# Altium integrated library eBox-SPARK_1.2.IntLib: 18 symbols
Pins are listed as number, name and electrical type; pins without a type are passive.

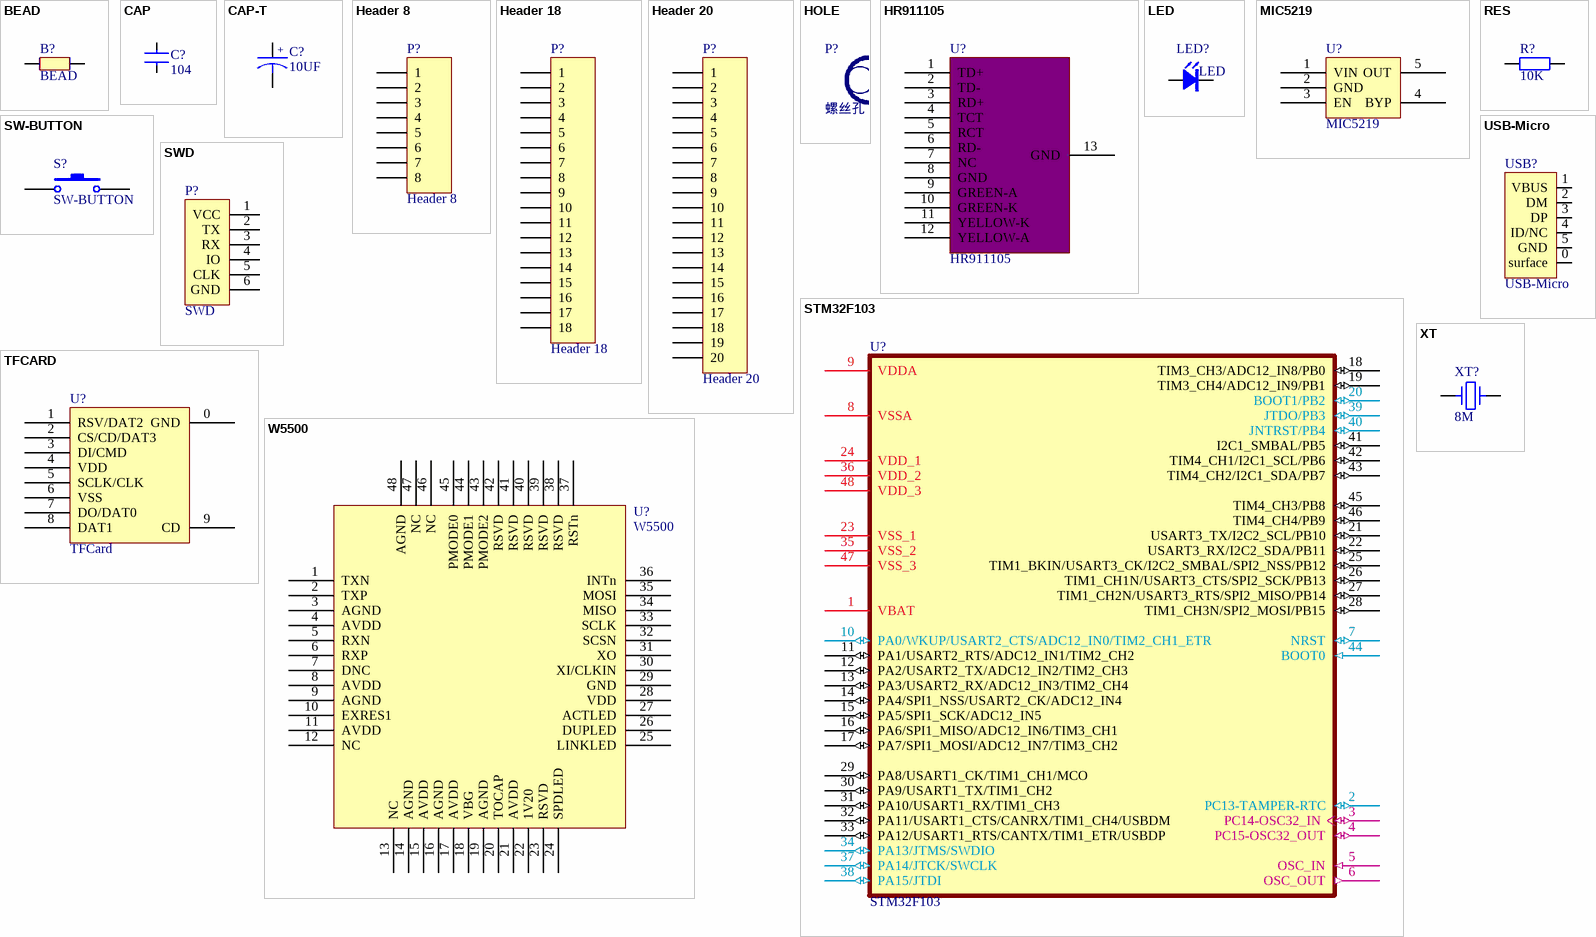
[diagram p0: symbols BEAD to XT]

## BEAD
designator B?
磁珠
footprint 0805L
footprint 0603L
pins: 1, 2

## CAP
designator C?, comment 104
普通小电容
footprint 0603C
footprint 0805C
footprint 1206C
footprint 1812C
footprint RAD0.2
footprint RAD0.3
footprint RAD0.6
footprint RAD0.1
pins: 1, 2

## CAP-T
designator C?, comment 10UF
钽电容
footprint 6032C
footprint 3216C
footprint 3528C (B型)
footprint 7343c
pins: 1, 2
text: +

## Header 8
designator P?
Header, 8-Pin; LatestRevisionDate: 17-Jul-2002; LatestRevisionNote: Re-released for DXP Platform.; Publisher: Altium Limited
footprint HDR1X8 (Connector; Header; 8 Position)
signal-integrity model Connector
footprint HDR1X8-2.0
footprint SH1.0-8P
pins: 1, 2, 3, 4, 5, 6, 7, 8

## Header 18
designator P?
Header, 18-Pin; LatestRevisionDate: 17-Jul-2002; LatestRevisionNote: Re-released for DXP Platform.; Publisher: Altium Limited
footprint HDR1X18 (Connector; Header; 18 Position)
signal-integrity model Connector
pins: 1, 2, 3, 4, 5, 6, 7, 8, 9, 10, 11, 12, 13, 14, 15, 16, 17, 18

## Header 20
designator P?
Header, 20-Pin; LatestRevisionDate: 17-Jul-2002; LatestRevisionNote: Re-released for DXP Platform.; Publisher: Altium Limited
footprint HDR1X20 (Connector; Header; 20 Position)
pins: 1, 2, 3, 4, 5, 6, 7, 8, 9, 10, 11, 12, 13, 14, 15, 16, 17, 18, 19, 20

## HOLE
designator P?, comment 螺丝孔
footprint HOLE-2.5-1

## HR911105
designator U?
footprint HR911105A
pins: 1 TD+ (power), 2 TD- (power), 3 RD+ (power), 4 TCT (power), 5 RCT (power), 6 RD- (power), 7 NC (power), 8 GND (power), 9 GREEN-A (power), 10 GREEN-K (power), 11 YELLOW-K (power), 12 YELLOW-A (power), 13 GND

## LED
designator LED?
footprint 0805D
footprint LED-3
footprint LED-5
footprint 0603D
footprint LED-2X5X7
pins: A 1, K 2

## MIC5219
designator U?
footprint SOT23-5 (Footprint not found)
pins: 1 VIN, 2 GND, 3 EN, 4 BYP, 5 OUT

## RES
designator R?, comment 10K
普通电阻
footprint 0805R
footprint 0603R
footprint 1206R
footprint 1210R
footprint 1812R
footprint 2010R
footprint 2220R
footprint R-AXIAL0.3
footprint R-AXIAL0.4
footprint R-AXIAL0.5
footprint R-SQP3W
footprint R-SQP5W
footprint R-SQP10W
footprint R-SQP20W
footprint RES-10mohm
footprint 4527R
pins: 1, 2

## STM32F103
designator U?
footprint LQFP48
pins: 1 VBAT (power), 2 PC13-TAMPER-RTC (io), 3 PC14-OSC32_IN (io), 4 PC15-OSC32_OUT (io), 5 OSC_IN (in), 6 OSC_OUT (out), 7 NRST (io), 8 VSSA (power), 9 VDDA (power), 10 PA0/WKUP/USART2_CTS/ADC12_IN0/TIM2_CH1_ETR (io), 11 PA1/USART2_RTS/ADC12_IN1/TIM2_CH2 (io), 12 PA2/USART2_TX/ADC12_IN2/TIM2_CH3 (io), 13 PA3/USART2_RX/ADC12_IN3/TIM2_CH4 (io), 14 PA4/SPI1_NSS/USART2_CK/ADC12_IN4 (io), 15 PA5/SPI1_SCK/ADC12_IN5 (io), 16 PA6/SPI1_MISO/ADC12_IN6/TIM3_CH1 (io), 17 PA7/SPI1_MOSI/ADC12_IN7/TIM3_CH2 (io), 18 TIM3_CH3/ADC12_IN8/PB0 (io), 19 TIM3_CH4/ADC12_IN9/PB1 (io), 20 BOOT1/PB2 (io), 21 USART3_TX/I2C2_SCL/PB10 (io), 22 USART3_RX/I2C2_SDA/PB11 (io), 23 VSS_1 (power), 24 VDD_1 (power), 25 TIM1_BKIN/USART3_CK/I2C2_SMBAL/SPI2_NSS/PB12 (io), 26 TIM1_CH1N/USART3_CTS/SPI2_SCK/PB13 (io), 27 TIM1_CH2N/USART3_RTS/SPI2_MISO/PB14 (io), 28 TIM1_CH3N/SPI2_MOSI/PB15 (io), 29 PA8/USART1_CK/TIM1_CH1/MCO (io), 30 PA9/USART1_TX/TIM1_CH2 (io), 31 PA10/USART1_RX/TIM1_CH3 (io), 32 PA11/USART1_CTS/CANRX/TIM1_CH4/USBDM (io), 33 PA12/USART1_RTS/CANTX/TIM1_ETR/USBDP (io), 34 PA13/JTMS/SWDIO (io), 35 VSS_2 (power), 36 VDD_2 (power), 37 PA14/JTCK/SWCLK (io), 38 PA15/JTDI (io), 39 JTDO/PB3 (io), 40 JNTRST/PB4 (io), 41 I2C1_SMBAL/PB5 (io), 42 TIM4_CH1/I2C1_SCL/PB6 (io), 43 TIM4_CH2/I2C1_SDA/PB7 (io), 44 BOOT0 (in), 45 TIM4_CH3/PB8 (io), 46 TIM4_CH4/PB9 (io), 47 VSS_3 (power), 48 VDD_3 (power)

## SW-BUTTON
designator S?
footprint SW-KEY
footprint SW-6*6*8
footprint 贴片轻触开关3*6
pins: 1, 2

## SWD
designator P?
单片机端
footprint HDR1X6
pins: 1 VCC, 2 TX, 3 RX, 4 IO, 5 CLK, 6 GND

## TFCARD
designator U?, comment TFCard
footprint TF-2
pins: 0 GND, 1 RSV/DAT2, 2 CS/CD/DAT3, 3 DI/CMD, 4 VDD, 5 SCLK/CLK, 6 VSS, 7 DO/DAT0, 8 DAT1, 9 CD

## USB-Micro
designator USB?
USB 1.1, Right Angle, SMT, A Type, Plug, 4 Position, Natural; ContactMaterial: Brass; ContactPlating: Gold (30) over Nickel (50); PCB_Layout: Complies with manufacturer's recommendation.; DrillSize: Corresponds to nominal value.; PanelGround: Without; Published: 15-Jul-2004; DatasheetDocument: 21-Jan-2003; PackageDocument: 21-Jan-2003; PackageReference: 1470695A; Publisher: Altium Limited; HousingMaterial: Thermoplastic; ComponentLink1Description: Manufacturer Link; ComponentLink1URL: http://www.tycoelectronics.com/; ComponentLink2Description: Packaging Specification; ComponentLink2URL: http://ecommas.tycoelectronics.com/commerce/DocumentDelivery/DDEController?Action=showdoc&DocId=Customer+Drawing%7F1470695%7FO%7Fpdf%7FEnglish%7FC_1470695_O.pdf
footprint USB-Micro (Micro_USB Dock 5 Pin)
footprint USB-Micro-1
footprint USB-Micro-2
pins: 0 surface "Shield", 1 VBUS (power) "Power", 2 DM "-DATA", 3 DP "+DATA", 4 ID/NC "Shield", 5 GND (power) "Ground"

## W5500
designator U?
footprint LQFP48
pins: 1 TXN, 2 TXP, 3 AGND, 4 AVDD, 5 RXN, 6 RXP, 7 DNC, 8 AVDD, 9 AGND, 10 EXRES1, 11 AVDD, 12 NC, 13 NC, 14 AGND, 15 AVDD, 16 AGND, 17 AVDD, 18 VBG, 19 AGND, 20 TOCAP, 21 AVDD, 22 1V20, 23 RSVD, 24 SPDLED, 25 LINKLED, 26 DUPLED, 27 ACTLED, 28 VDD, 29 GND, 30 XI/CLKIN, 31 XO, 32 SCSN, 33 SCLK, 34 MISO, 35 MOSI, 36 INTn, 37 RSTn, 38 RSVD, 39 RSVD, 40 RSVD, 41 RSVD, 42 RSVD, 43 PMODE2, 44 PMODE1, 45 PMODE0, 46 NC, 47 NC, 48 AGND

## XT
designator XT?, comment 8M
晶振
footprint XTAL-49S
footprint XTAL-49X
footprint AT26
footprint 3215
footprint 5032
pins: 1, 2